# EAGLE library part R5H30211 (library NewSDR)
Renesas Board ID Microcontroller
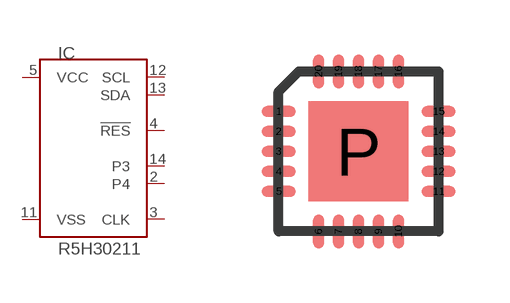
[diagram p172: symbol with the pads of QFN-20_P; footprint QFN-20_P]

Designator prefix IC

## R5H30211  [QFN-20_P]
2  P4  out
3  CLK  pas
4  !RES  in
5  VCC  pwr
11  VSS  pwr
12  SCL  in
13  SDA
14  P3  out

## Footprint QFN-20_P (pad centres in mm)
20-pin QFN
smd 0.85 x 0.28: 1 -2,1; 2 -2,0.5; 3 -2,0; 4 -2,-0.5; 5 -2,-1; 11 2,-1; 12 2,-0.5; 13 2,0; 14 2,0.5; 15 2,1
smd 0.28 x 0.85: 6 -1,-2; 7 -0.5,-2; 8 0,-2; 9 0.5,-2; 10 1,-2; 16 1,2; 17 0.5,2; 18 0,2; 19 -0.5,2; 20 -1,2
smd 2.5 x 2.5: P 0,0